# Altium schematic symbol library HEADER-3x1.SchLib: 1 symbol
Pins are listed as number, name and electrical type; pins without a type are passive.

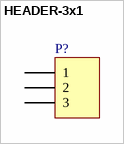
[diagram p0: symbol HEADER-3x1]

## HEADER-3x1
designator P?
Header, 3-Pin
pins: 1, 2, 3